# EAGLE library part W25Q80BVSSIG (library SPI_Flash)
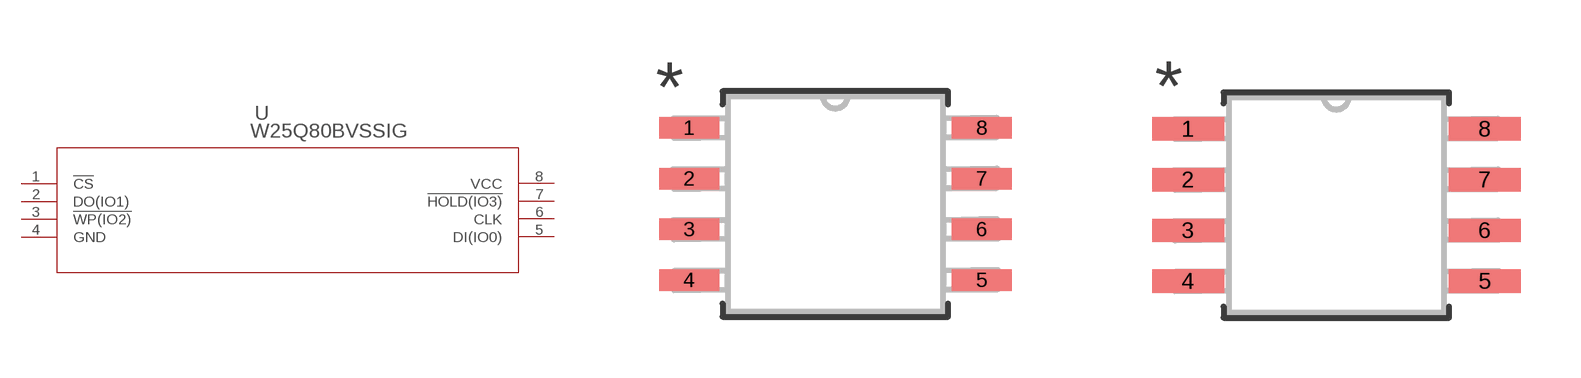
[diagram p0: symbol with the pads of WIN_SS-8; footprints WIN_SS-8, WIN_SS-8-M]

Designator prefix U

## W25Q80BVSSIG (MANUFACTURER_PART_NUMBER: W25Q80BVSSIG; VENDOR: WINBOND)  [WIN_SS-8]
1  !CS  in
2  DO(IO1)
3  !WP(IO2)
4  GND  pwr
5  DI(IO0)
6  CLK  in
7  !HOLD(IO3)
8  VCC  pwr

## W25Q80BVSSIGWIN_SS-8-M (MANUFACTURER_PART_NUMBER: W25Q80BVSSIG; VENDOR: WINBOND)  [WIN_SS-8-M]
Pads as for WIN_SS-8

## W25Q80BVSSIGWIN_SS-8-L (MANUFACTURER_PART_NUMBER: W25Q80BVSSIG; VENDOR: WINBOND)  [WIN_SS-8-L]
Pads as for WIN_SS-8

## Footprint WIN_SS-8 (pad centres in mm)
smd 1.499 x 0.533: 1 -3.658,1.905; 2 -3.658,0.635; 3 -3.658,-0.635; 4 -3.658,-1.905; 5 3.658,-1.905; 6 3.658,-0.635; 7 3.658,0.635; 8 3.658,1.905

## Footprint WIN_SS-8-M (pad centres in mm)
smd 1.803 x 0.584: 1 -3.708,1.905; 2 -3.708,0.635; 3 -3.708,-0.635; 4 -3.708,-1.905; 5 3.708,-1.905; 6 3.708,-0.635; 7 3.708,0.635; 8 3.708,1.905

## Footprint WIN_SS-8-L (pad centres in mm)
smd 1.194 x 0.483: 1 -3.607,1.905; 2 -3.607,0.635; 3 -3.607,-0.635; 4 -3.607,-1.905; 5 3.607,-1.905; 6 3.607,-0.635; 7 3.607,0.635; 8 3.607,1.905